# Altium footprint library WDX-DIY-PCB.PCBLIB: 138 footprints (part 4 of 9)
Each footprint in its own frame and in the unit in brackets; x right, y up, seen from the top. Pads: shape width x height; smd on the part's side, far side on the other; paste and mask are expansions set on the pad; w line width, h text height; cw(c..) or ccw(c..) is an arc to the next point about the centre after c.
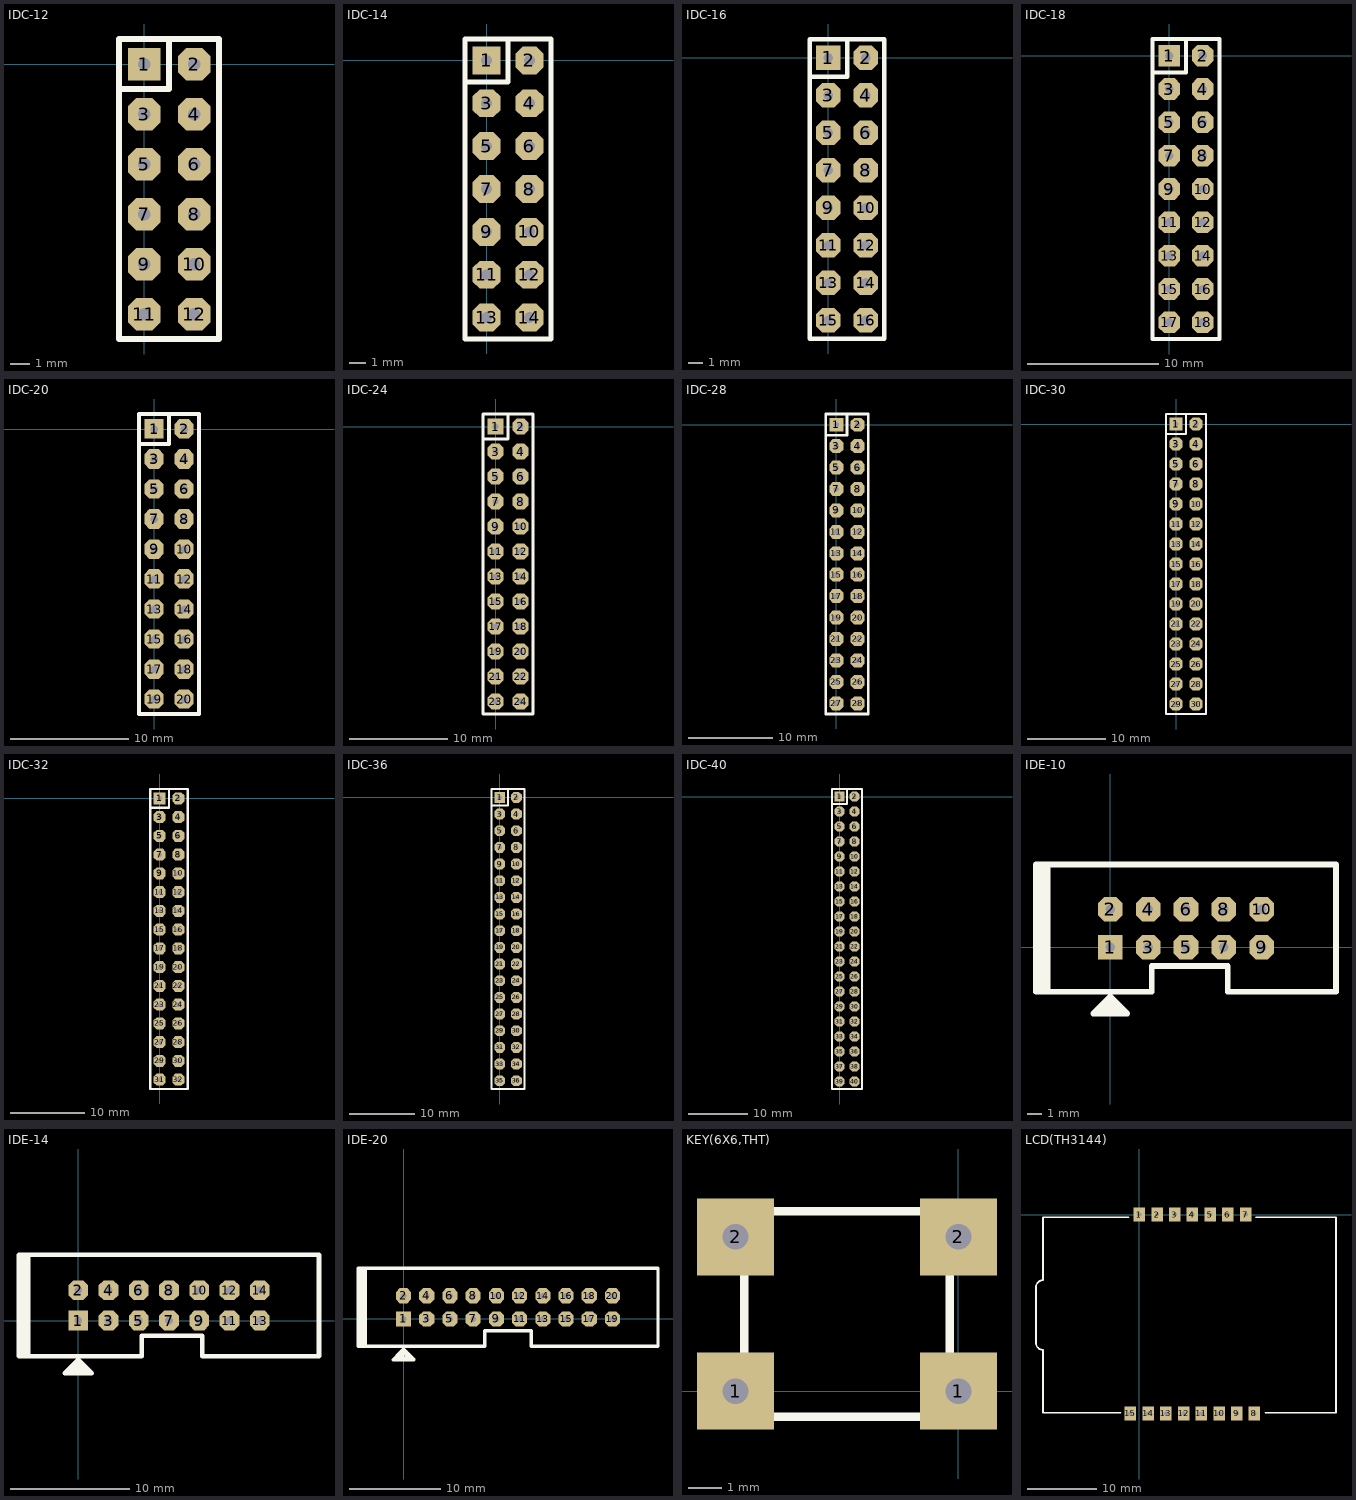
[diagram p3: the footprints below, top view; thin cyan lines are the x and y axes]

## IDC-12 [mil]
pads (12):
  rect 65x65 hole 25: 1(0,0)
  oct 65x65 hole 25: 2(100,0) 3(0,-100) 4(100,-100) 5(0,-200) 6(100,-200) 7(0,-300) 8(100,-300) 9(0,-400) 10(100,-400) 11(0,-500) 12(100,-500)
TopOverlay:
  lines w12: -50,-50 50,-50 50,50 ; -50,-550 -50,50 150,50 150,-550 -50,-550

## IDC-14 [mil]
pads (14):
  rect 65x65 hole 25: 1(0,0)
  oct 65x65 hole 25: 2(100,0) 3(0,-100) 4(100,-100) 5(0,-200) 6(100,-200) 7(0,-300) 8(100,-300) 9(0,-400) 10(100,-400) 11(0,-500) 12(100,-500) 13(0,-600) 14(100,-600)
TopOverlay:
  lines w12: -50,-50 50,-50 50,50 ; -50,-650 -50,50 150,50 150,-650 -50,-650

## IDC-16 [mil]
pads (16):
  rect 65x65 hole 25: 1(0,0)
  oct 65x65 hole 25: 2(100,0) 3(0,-100) 4(100,-100) 5(0,-200) 6(100,-200) 7(0,-300) 8(100,-300) 9(0,-400) 10(100,-400) 11(0,-500) 12(100,-500) 13(0,-600) 14(100,-600) 15(0,-700) 16(100,-700)
TopOverlay:
  lines w12: -50,-50 50,-50 50,50 ; -50,-750 -50,50 150,50 150,-750 -50,-750

## IDC-18 [mil]
pads (18):
  rect 65x65 hole 25: 1(0,0)
  oct 65x65 hole 25: 2(100,0) 3(0,-100) 4(100,-100) 5(0,-200) 6(100,-200) 7(0,-300) 8(100,-300) 9(0,-400) 10(100,-400) 11(0,-500) 12(100,-500) 13(0,-600) 14(100,-600) 15(0,-700) 16(100,-700) 17(0,-800) 18(100,-800)
TopOverlay:
  lines w12: -50,-50 50,-50 50,50 ; -50,-850 150,-850 150,50 -50,50 -50,-850

## IDC-20 [mil]
pads (20):
  rect 65x65 hole 25: 1(0,0)
  oct 65x65 hole 25: 2(100,0) 3(0,-100) 4(100,-100) 5(0,-200) 6(100,-200) 7(0,-300) 8(100,-300) 9(0,-400) 10(100,-400) 11(0,-500) 12(100,-500) 13(0,-600) 14(100,-600) 15(0,-700) 16(100,-700) 17(0,-800) 18(100,-800) 19(0,-900) 20(100,-900)
TopOverlay:
  lines w12: -50,-50 50,-50 50,50 ; -50,-950 150,-950 150,50 -50,50 -50,-950

## IDC-24 [mil]
pads (24):
  rect 65x65 hole 25: 1(0,0)
  oct 65x65 hole 25: 2(100,0) 3(0,-100) 4(100,-100) 5(0,-200) 6(100,-200) 7(0,-300) 8(100,-300) 9(0,-400) 10(100,-400) 11(0,-500) 12(100,-500) 13(0,-600) 14(100,-600) 15(0,-700) 16(100,-700) 17(0,-800) 18(100,-800) 19(0,-900) 20(100,-900) 21(0,-1000) 22(100,-1000) 23(0,-1100) 24(100,-1100)
TopOverlay:
  lines w12: -50,-50 50,-50 50,50 ; -50,-1150 -50,50 150,50 150,-1150 -50,-1150

## IDC-28 [mil]
pads (28):
  rect 65x65 hole 25: 1(0,0)
  oct 65x65 hole 25: 2(100,0) 3(0,-100) 4(100,-100) 5(0,-200) 6(100,-200) 7(0,-300) 8(100,-300) 9(0,-400) 10(100,-400) 11(0,-500) 12(100,-500) 13(0,-600) 14(100,-600) 15(0,-700) 16(100,-700) 17(0,-800) 18(100,-800) 19(0,-900) 20(100,-900) 21(0,-1000) 22(100,-1000) 23(0,-1100) 24(100,-1100) 25(0,-1200) 26(100,-1200) 27(0,-1300) 28(100,-1300)
TopOverlay:
  lines w12: -50,-50 50,-50 50,50 ; -50,-1350 150,-1350 150,50 -50,50 -50,-1350

## IDC-30 [mil]
pads (30):
  rect 65x65 hole 25: 1(0,0)
  oct 65x65 hole 25: 2(100,0) 3(0,-100) 4(100,-100) 5(0,-200) 6(100,-200) 7(0,-300) 8(100,-300) 9(0,-400) 10(100,-400) 11(0,-500) 12(100,-500) 13(0,-600) 14(100,-600) 15(0,-700) 16(100,-700) 17(0,-800) 18(100,-800) 19(0,-900) 20(100,-900) 21(0,-1000) 22(100,-1000) 23(0,-1100) 24(100,-1100) 25(0,-1200) 26(100,-1200) 27(0,-1300) 28(100,-1300) 29(0,-1400) 30(100,-1400)
TopOverlay:
  lines w12: -50,-50 50,-50 50,50 ; -50,-1450 -50,50 150,50 150,-1450 -50,-1450

## IDC-32 [mil]
pads (32):
  rect 65x65 hole 25: 1(0,0)
  oct 65x65 hole 25: 2(100,0) 3(0,-100) 4(100,-100) 5(0,-200) 6(100,-200) 7(0,-300) 8(100,-300) 9(0,-400) 10(100,-400) 11(0,-500) 12(100,-500) 13(0,-600) 14(100,-600) 15(0,-700) 16(100,-700) 17(0,-800) 18(100,-800) 19(0,-900) 20(100,-900) 21(0,-1000) 22(100,-1000) 23(0,-1100) 24(100,-1100) 25(0,-1200) 26(100,-1200) 27(0,-1300) 28(100,-1300) 29(0,-1400) 30(100,-1400) 31(0,-1500) 32(100,-1500)
TopOverlay:
  lines w12: -50,-50 50,-50 50,50 ; -50,-1550 -50,50 150,50 150,-1550 -50,-1550

## IDC-36 [mil]
pads (36):
  rect 65x65 hole 25: 1(0,0)
  oct 65x65 hole 25: 2(100,0) 3(0,-100) 4(100,-100) 5(0,-200) 6(100,-200) 7(0,-300) 8(100,-300) 9(0,-400) 10(100,-400) 11(0,-500) 12(100,-500) 13(0,-600) 14(100,-600) 15(0,-700) 16(100,-700) 17(0,-800) 18(100,-800) 19(0,-900) 20(100,-900) 21(0,-1000) 22(100,-1000) 23(0,-1100) 24(100,-1100) 25(0,-1200) 26(100,-1200) 27(0,-1300) 28(100,-1300) 29(0,-1400) 30(100,-1400) 31(0,-1500) 32(100,-1500) 33(0,-1600) 34(100,-1600) 35(0,-1700) 36(100,-1700)
TopOverlay:
  lines w12: -50,-50 50,-50 50,50 ; -50,-1750 -50,50 150,50 150,-1750 -50,-1750

## IDC-40 [mil]
pads (40):
  rect 65x65 hole 25: 1(0,0)
  oct 65x65 hole 25: 2(100,0) 3(0,-100) 4(100,-100) 5(0,-200) 6(100,-200) 7(0,-300) 8(100,-300) 9(0,-400) 10(100,-400) 11(0,-500) 12(100,-500) 13(0,-600) 14(100,-600) 15(0,-700) 16(100,-700) 17(0,-800) 18(100,-800) 19(0,-900) 20(100,-900) 21(0,-1000) 22(100,-1000) 23(0,-1100) 24(100,-1100) 25(0,-1200) 26(100,-1200) 27(0,-1300) 28(100,-1300) 29(0,-1400) 30(100,-1400) 31(0,-1500) 32(100,-1500) 33(0,-1600) 34(100,-1600) 35(0,-1700) 36(100,-1700) 37(0,-1800) 38(100,-1800) 39(0,-1900) 40(100,-1900)
TopOverlay:
  lines w12: -50,-50 50,-50 50,50 ; -50,-1950 150,-1950 150,50 -50,50 -50,-1950

## IDE-10 [mil]
pads (10):
  rect 65x65 hole 25: 1(0,0)
  oct 65x65 hole 25: 2(0,100) 3(100,0) 4(100,100) 5(200,0) 6(200,100) 7(300,0) 8(300,100) 9(400,0) 10(400,100)
TopOverlay:
  lines w15: -185,-118 -185,218 ; -175,-118 -175,218 ; -165,-118 -165,218 ; -34.24,-164.24 -30.76,-164.24 -20,-175 ; -27.15,-157.15 -22.85,-157.15 -5,-175 ; -16.42,-146.42 -16.42,-148.58 10,-175 ; -9.32,-139.32 -5.68,-139.32 30,-175 ; -196,-118 -196,218 596,218 596,-118 309.84,-118 309.84,-50 109.84,-50 109.84,-118 -196,-118 ; -45,-175 0,-130 45,-175 -45,-175

## IDE-14 [mil]
pads (14):
  rect 65x65 hole 25: 1(0,0)
  oct 65x65 hole 25: 2(0,100) 3(100,0) 4(100,100) 5(200,0) 6(200,100) 7(300,0) 8(300,100) 9(400,0) 10(400,100) 11(500,0) 12(500,100) 13(600,0) 14(600,100)
TopOverlay:
  lines w15: -185,-118 -185,218 ; -175,-118 -175,218 ; -165,-118 -165,218 ; -34.24,-164.24 -30.76,-164.24 -20,-175 ; -27.15,-157.15 -22.85,-157.15 -5,-175 ; -16.42,-146.42 -16.42,-148.58 10,-175 ; -9.32,-139.32 -5.68,-139.32 30,-175 ; -196,-118 209.84,-118 209.84,-50 409.84,-50 409.84,-118 796,-118 796,218 -196,218 -196,-118 ; -45,-175 0,-130 45,-175 -45,-175

## IDE-20 [mil]
pads (20):
  rect 65x65 hole 25: 1(0,0)
  oct 65x65 hole 25: 2(0,100) 3(100,0) 4(100,100) 5(200,0) 6(200,100) 7(300,0) 8(300,100) 9(400,0) 10(400,100) 11(500,0) 12(500,100) 13(600,0) 14(600,100) 15(700,0) 16(700,100) 17(800,0) 18(800,100) 19(900,0) 20(900,100)
TopOverlay:
  lines w8: 350,-118 350,-50 ; 550,-118 550,-50
  lines w15: -185,-118 -185,218 ; -175,-118 -175,218 ; -165,-118 -165,218 ; -34.24,-164.24 -30.76,-164.24 -20,-175 ; -27.15,-157.15 -22.85,-157.15 -5,-175 ; -16.42,-146.42 -16.42,-148.58 10,-175 ; -9.32,-139.32 -5.68,-139.32 30,-175 ; -196,-118 -196,218 1096,218 1096,-118 550,-118 550,-50 350,-50 350,-118 -196,-118 ; -45,-175 0,-130 45,-175 -45,-175

## KEY(6X6,THT) [mil]
pads (4):
  rect 90x90 hole 30: 1(-260,0) 1(0,0) 2(-260,180) 2(0,180)
TopOverlay:
  lines w10: -250,45 -250,135 ; -225,-30 -35,-30 ; -225,210 -35,210 ; -10,45 -10,135

## LCD(TH3144) [mil]
pads (15):
  rect 65x80 hole 25: 1(0,0) 2(100,0) 3(200,0) 4(300,0) 5(400,0) 6(500,0) 7(600,0) 8(650,-1123) 9(550,-1123) 10(450,-1123) 11(350,-1123) 12(250,-1123) 13(150,-1123) 14(50,-1123) 15(-50,-1123)
TopOverlay:
  lines w10: -106,-1119 -544,-1119 -544,-764 cw(c-544,-725) -583,-725 -583,-410 cw(c-544,-410) -544,-371 -544,-16 -59,-16 ; 657,-16 1110,-16 1110,-1119 711,-1119